# Altium schematic symbol library WE-EPLE.SchLib: 1 symbol
Pins are listed as number, name and electrical type; pins without a type are passive.

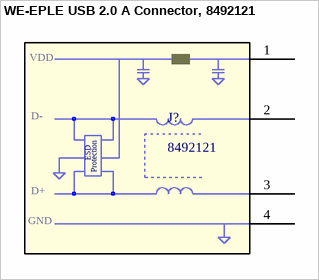
[diagram p0: symbol WE-EPLE USB 2.0 A Connector, 8492121]

## WE-EPLE USB 2.0 A Connector, 8492121
designator J?, comment 8492121
THT USB 2.0 A Connector WE-EPLE; Manufacturer: Würth Elektronik eiSos GmbH; PartNo: 8492121; ComponentLink1Description: Manufacturer; ComponentLink1URL: http://www.we-online.de; Created by: Christin Otto; Created Date: OCT-2014; ComponentLink2Description: Datasheet; ComponentLink2URL: http://www.we-online.de/katalog/media/pdf/8492121.pdf
footprint WE-EPLE (THT, USB 2.0 A Connector, 4Pin, Body 15.8 x14.5mm)
pins: 1 VBUS, 2 D-, 3 D+, 4 GND
text: VDD; ESD; Protection